# EAGLE library part AD5627 (library AnalogDevices)
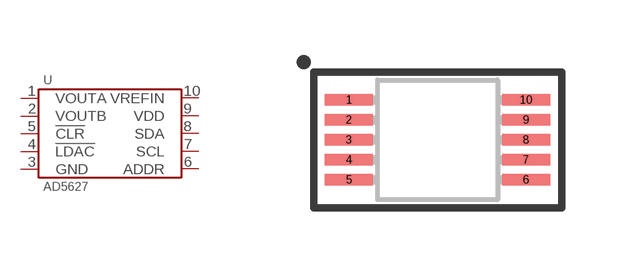
[diagram p9: symbol with the pads of MSOP-10; footprint MSOP-10]

Designator prefix U

## AD5627BRMZ  [MSOP-10]
1  VOUTA
2  VOUTB
3  GND
4  !LDAC
5  !CLR
6  ADDR
7  SCL
8  SDA
9  VDD
10  VREFIN

## Footprint MSOP-10 (pad centres in mm)
smd 1.2 x 0.29: 1 -2.213,1; 2 -2.213,0.5; 3 -2.213,0; 4 -2.213,-0.5; 5 -2.213,-1; 6 2.213,-1; 7 2.213,-0.5; 8 2.213,0; 9 2.213,0.5; 10 2.213,1